# EAGLE library part FT231XQ-R (library howell)
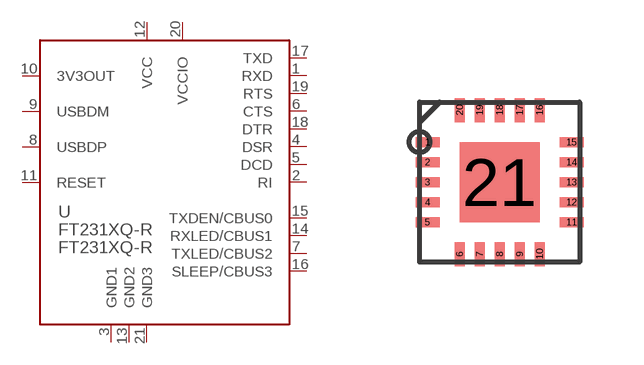
[diagram p7: symbol with the pads of FT231XQ-R; footprint FT231XQ-R]

Designator prefix -

## FT231XQ-R  [FT231XQ-R]
1  RXD
2  RI
3  GND1
4  DSR
5  DCD
6  CTS
7  TXLED/CBUS2
8  USBDP
9  USBDM
10  3V3OUT
11  RESET
12  VCC
13  GND2
14  RXLED/CBUS1
15  TXDEN/CBUS0
16  SLEEP/CBUS3
17  TXD
18  DTR
19  RTS
20  VCCIO
21  GND3

## Footprint FT231XQ-R (pad centres in mm)
smd 0.6 x 0.25: 1 -1.8,1; 2 -1.8,0.5; 3 -1.8,0; 4 -1.8,-0.5; 5 -1.8,-1; 11 1.8,-1; 12 1.8,-0.5; 13 1.8,0; 14 1.8,0.5; 15 1.8,1
smd 0.25 x 0.6: 6 -1,-1.8; 7 -0.5,-1.8; 8 0,-1.8; 9 0.5,-1.8; 10 1,-1.8; 16 1,1.8; 17 0.5,1.8; 18 0,1.8; 19 -0.5,1.8; 20 -1,1.8
smd 2 x 2: 21 0,0